# EAGLE library part ATXMEGA_A3U (library fab)
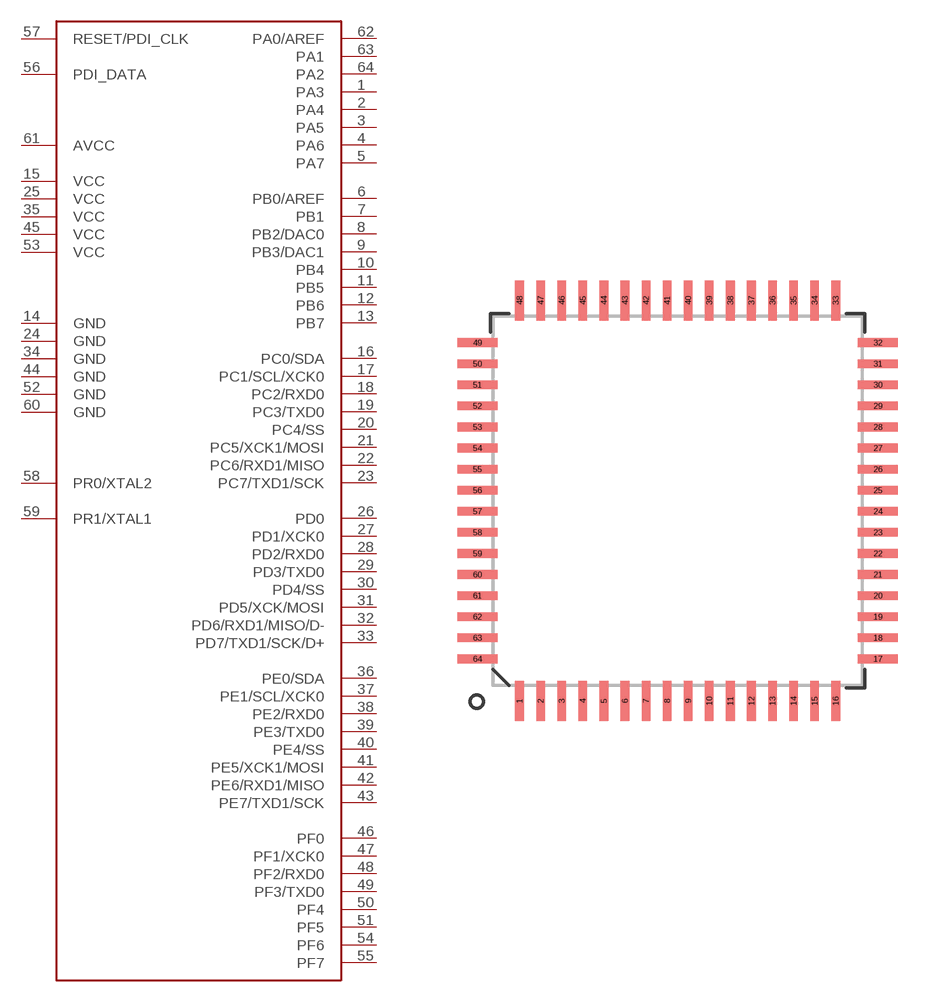
[diagram p27: symbol with the pads of TQFP64_14X14MM-013THIN; footprint TQFP64_14X14MM-013THIN]

Designator prefix -

## ATXMEGA_A3U  [TQFP64_14X14MM-013THIN]
1  PA3
2  PA4
3  PA5
4  PA6
5  PA7
6  PB0/AREF
7  PB1
8  PB2/DAC0
9  PB3/DAC1
10  PB4
11  PB5
12  PB6
13  PB7
14  GND
15  VCC
16  PC0/SDA
17  PC1/SCL/XCK0
18  PC2/RXD0
19  PC3/TXD0
20  PC4/SS
21  PC5/XCK1/MOSI
22  PC6/RXD1/MISO
23  PC7/TXD1/SCK
24  GND
25  VCC
26  PD0
27  PD1/XCK0
28  PD2/RXD0
29  PD3/TXD0
30  PD4/SS
31  PD5/XCK/MOSI
32  PD6/RXD1/MISO/D-
33  PD7/TXD1/SCK/D+
34  GND
35  VCC
36  PE0/SDA
37  PE1/SCL/XCK0
38  PE2/RXD0
39  PE3/TXD0
40  PE4/SS
41  PE5/XCK1/MOSI
42  PE6/RXD1/MISO
43  PE7/TXD1/SCK
44  GND
45  VCC
46  PF0
47  PF1/XCK0
48  PF2/RXD0
49  PF3/TXD0
50  PF4
51  PF5
52  GND
53  VCC
54  PF6
55  PF7
56  PDI_DATA
57  RESET/PDI_CLK
58  PR0/XTAL2
59  PR1/XTAL1
60  GND
61  AVCC
62  PA0/AREF
63  PA1
64  PA2

## Footprint TQFP64_14X14MM-013THIN (pad centres in mm)
64-Lead TQFP Plastic Thin Quad Flatpack - 14x14x1mm Body
smd 0.33 x 1.524: 1 -6,-7.6; 2 -5.2,-7.6; 3 -4.4,-7.6; 4 -3.6,-7.6; 5 -2.8,-7.6; 6 -2,-7.6; 7 -1.2,-7.6; 8 -0.4,-7.6; 9 0.4,-7.6; 10 1.2,-7.6; 11 2,-7.6; 12 2.8,-7.6; 13 3.6,-7.6; 14 4.4,-7.6; 15 5.2,-7.6; 16 6,-7.6; 33 6,7.6; 34 5.2,7.6; 35 4.4,7.6; 36 3.6,7.6; 37 2.8,7.6; 38 2,7.6; 39 1.2,7.6; 40 0.4,7.6; 41 -0.4,7.6; 42 -1.2,7.6; 43 -2,7.6; 44 -2.8,7.6; 45 -3.6,7.6; 46 -4.4,7.6; 47 -5.2,7.6; 48 -6,7.6
smd 1.524 x 0.33: 17 7.6,-6; 18 7.6,-5.2; 19 7.6,-4.4; 20 7.6,-3.6; 21 7.6,-2.8; 22 7.6,-2; 23 7.6,-1.2; 24 7.6,-0.4; 25 7.6,0.4; 26 7.6,1.2; 27 7.6,2; 28 7.6,2.8; 29 7.6,3.6; 30 7.6,4.4; 31 7.6,5.2; 32 7.6,6; 49 -7.6,6; 50 -7.6,5.2; 51 -7.6,4.4; 52 -7.6,3.6; 53 -7.6,2.8; 54 -7.6,2; 55 -7.6,1.2; 56 -7.6,0.4; 57 -7.6,-0.4; 58 -7.6,-1.2; 59 -7.6,-2; 60 -7.6,-2.8; 61 -7.6,-3.6; 62 -7.6,-4.4; 63 -7.6,-5.2; 64 -7.6,-6